# EAGLE library part ARCHER-M50-DIL-30POS (library Harwin)
Archer M50 - 1.27mm (0.05") pitch DIL pin headers Datasheet: https://cdn.harwin.com/pdfs/M50-480.pdf
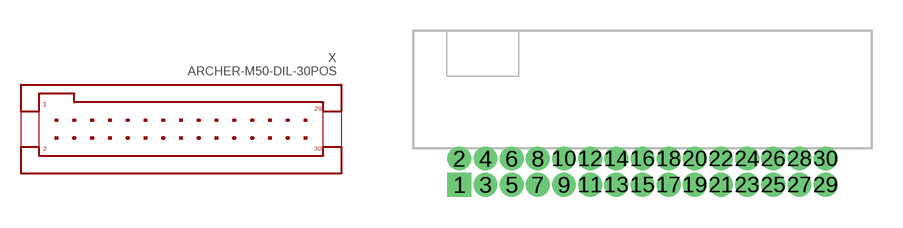
[diagram p0: symbol with the pads of M50-4801545; footprint M50-4801545]

Designator prefix X

## ARCHER-M50-DIL-30POS-RA (PARTNO: M50-4801545)  [M50-4801545]
1  1
2  2
3  3
4  4
5  5
6  6
7  7
8  8
9  9
10  10
11  11
12  12
13  13
14  14
15  15
16  16
17  17
18  18
19  19
20  20
21  21
22  22
23  23
24  24
25  25
26  26
27  27
28  28
29  29
30  30

## Footprint M50-4801545 (pad centres in mm)
Harwin Archer M50 series - 1.27mm (0.05") pitch DIL polarized connectors 30 positions, gold plated, male PC tail, right angle Datasheet: https://cdn.harwin.com/pdfs/M50-480.pdf
drill 0.65 square: 1 -8.89,-1.27
drill 0.65 round: 2 -8.89,0; 3 -7.62,-1.27; 4 -7.62,0; 5 -6.35,-1.27; 6 -6.35,0; 7 -5.08,-1.27; 8 -5.08,0; 9 -3.81,-1.27; 10 -3.81,0; 11 -2.54,-1.27; 12 -2.54,0; 13 -1.27,-1.27; 14 -1.27,0; 15 0,-1.27; 16 0,0; 17 1.27,-1.27; 18 1.27,0; 19 2.54,-1.27; 20 2.54,0; 21 3.81,-1.27; 22 3.81,0; 23 5.08,-1.27; 24 5.08,0; 25 6.35,-1.27; 26 6.35,0; 27 7.62,-1.27; 28 7.62,0; 29 8.89,-1.27; 30 8.89,0